# EAGLE library part CTS_219_SMT_DIP_SWITCH_3_POSITIONS (library Nwazet.Go)
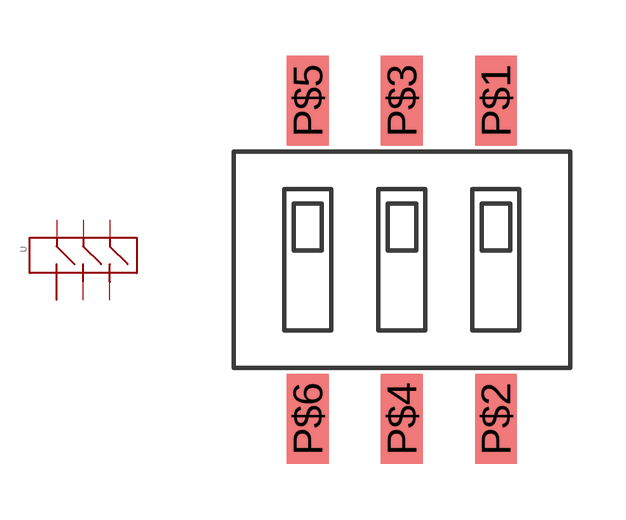
[diagram p27: symbol with the pads of CTS_219_SMT_DIP_SWITCH_3_POSITIONS; footprint CTS_219_SMT_DIP_SWITCH_3_POSITIONS]

Designator prefix -

## CTS_219_SMT_DIP_SWITCH_3_POSITIONS  [CTS_219_SMT_DIP_SWITCH_3_POSITIONS]
P$1  1
P$2  2
P$3  3
P$4  4
P$5  5
P$6  6

## Footprint CTS_219_SMT_DIP_SWITCH_3_POSITIONS (pad centres in mm)
smd 1.13 x 2.44: P$1 2.54,4.3; P$2 2.54,-4.3; P$3 0,4.3; P$4 0,-4.3; P$5 -2.54,4.3; P$6 -2.54,-4.3